# Altium integrated library R24-150B.IntLib: 1 symbol
Pins are listed as number, name and electrical type; pins without a type are passive.

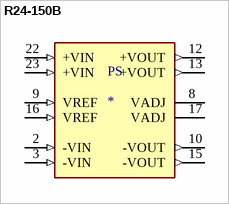
[diagram p0: symbol R24-150B]

## R24-150B
designator PS
5W DC/DC-Converter 'INNOLINE' DIP24 3kV reg; MP: R24-150B; MF: Recom Power; Digi-Key_Purchase_URL: https://www.digikey.com.au/product-detail/en/recom-power/R24-150B/945-2055-5-ND/3776803?utm_source=snapeda&utm_medium=aggregator&utm_campaign=symbol; Value: *; Package: DIP-24 Recom Power; SnapEDA_Link: https://www.snapeda.com/parts/R24-150B/Recom%20Power/view-part/1472579/?ref=snap; Digi-Key_Part_Number: 945-2055-5-ND
footprint CONV_R24-150B
pins: 2 -VIN (in), 3 -VIN (in), 8 VADJ, 9 VREF (in), 10 -VOUT (out), 12 +VOUT (out), 13 +VOUT (out), 15 -VOUT (out), 16 VREF (in), 17 VADJ, 22 +VIN (in), 23 +VIN (in)